# Altium footprint library semtech.PcbLib: 62 footprints (part 1 of 4)
Each footprint in its own frame and in the unit in brackets; x right, y up, seen from the top. Pads: shape width x height; smd on the part's side, far side on the other; paste and mask are expansions set on the pad; w line width, h text height; cw(c..) or ccw(c..) is an arc to the next point about the centre after c.
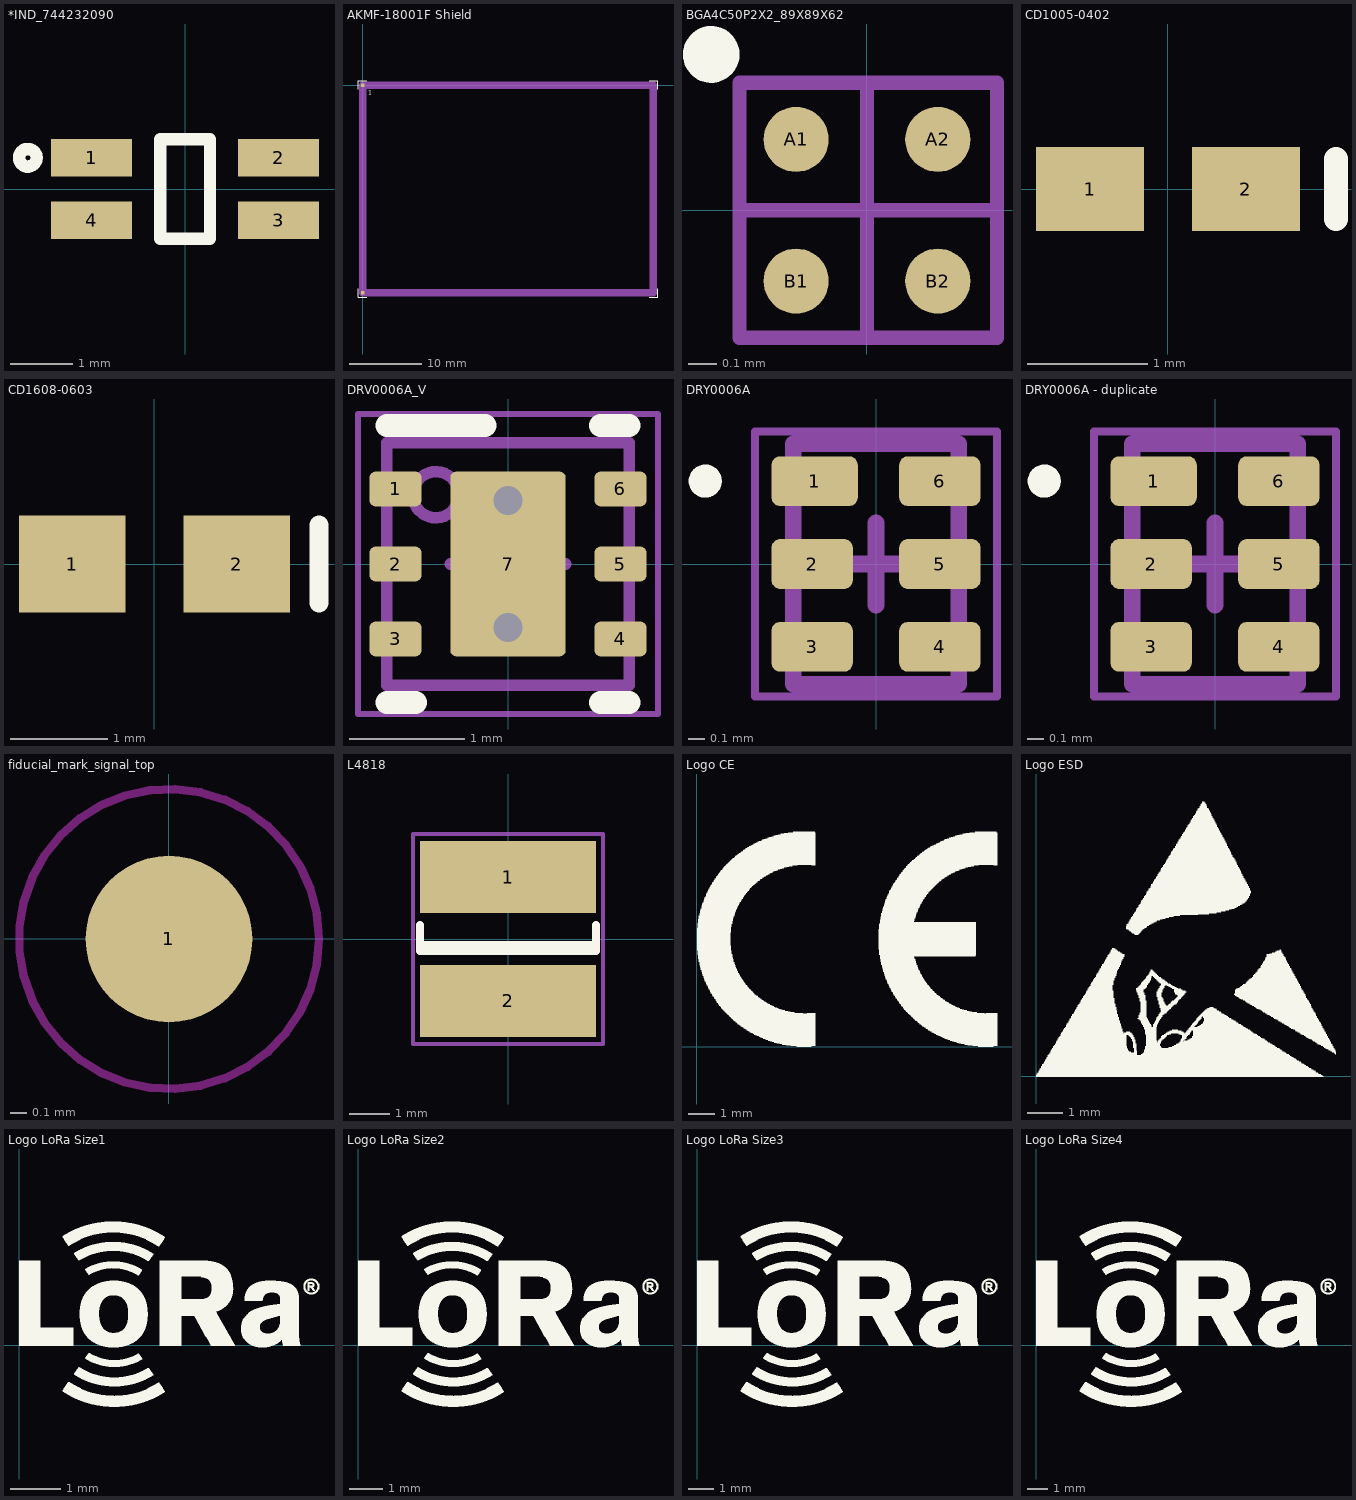
[diagram p0: the footprints below, top view; thin cyan lines are the x and y axes]

## *IND_744232090 [mm]
pads (4):
  rect 1.3x0.6 smd: 1(-1.5,0.5) 2(1.5,0.5) 3(1.5,-0.5) 4(-1.5,-0.5)
Top Overlay:
  circle w0.2: c-2.526,0.501 r0.141
  lines w0.2: -0.4,-0.8 -0.4,0.8 0.4,0.8 0.4,-0.8 -0.4,-0.8

## AKMF-18001F Shield [mm] "AKMF-18001F - RF Shield EMI Gasket - Standard Surface Mount Shields -  Leader Tech"
height 2.5
pads (2):
  rect 0.5x0.5 smd paste-1 mask+0.05: 1(0,-28.7) 1(0,0)
Top Overlay:
  lines w0.1: -0.65,-28.15 -0.65,-29.35 0.55,-29.35 ; -0.65,-0.55 -0.65,0.65 0.55,0.65 ; 39.65,-29.35 40.85,-29.35 40.85,-28.15 ; 39.65,0.65 40.85,0.65 40.85,-0.55
  text "1" at 0.75,-1.325 h0.6
Top Paste:
  region: 40.7,0.5 40.7,-1.5 39.7,-1.5 39.7,0.5
  region: 39.7,-6.25 40.7,-6.25 40.7,-2.75 39.7,-2.75
  region: 39.7,-13.75 40.7,-13.75 40.7,-8.75 39.7,-8.75
  region: 39.7,-19.75 40.45,-19.75 40.45,-14.75 39.7,-14.75
  region: 39.7,-25.25 40.7,-25.25 40.7,-20.75 39.7,-20.75
  region: 40.7,-27.5 40.7,-29.2 39.7,-29.2 39.7,-27.5
  region: 0.5,-27.2 0.5,-29.2 -0.5,-29.2 -0.5,-27.2
  region: -0.5,-25.75 0.5,-25.75 0.5,-20.75 -0.5,-20.75
  region: -0.5,-19.75 0.5,-19.75 0.5,-16.25 -0.5,-16.25
  region: -0.5,-15 0.5,-15 0.5,-8.5 -0.5,-8.5
  region: -0.5,-7.25 0.5,-7.25 0.5,-2.75 -0.5,-2.75
  region: 0.5,0.5 0.5,-3 -0.5,-3 -0.5,0.5
  region: 40.7,-29.2 37.5,-29.2 37.5,-28.2 40.7,-28.2
  region: 32.75,-28.2 32.75,-29.2 37.75,-29.2 37.75,-28.2
  region: 26.75,-28.2 26.75,-29.2 31.75,-29.2 31.75,-28.2
  region: 20.75,-28.2 20.75,-29.2 25.75,-29.2 25.75,-28.2
  region: 14.75,-28.2 14.75,-29.2 19.75,-29.2 19.75,-28.2
  region: 8.75,-28.2 8.75,-29.2 13.75,-29.2 13.75,-28.2
  region: 2.75,-28.2 2.75,-29.2 7.75,-29.2 7.75,-28.2
  region: 1.5,-29.2 -0.5,-29.2 -0.5,-28.2 1.5,-28.2
  region: 1.5,-0.5 -0.5,-0.5 -0.5,0.5 1.5,0.5
  region: 2.75,0.5 2.75,-0.5 7.75,-0.5 7.75,0.5
  region: 8.75,0.5 8.75,-0.5 13.75,-0.5 13.75,0.5
  region: 14.75,0.5 14.75,-0.5 19.75,-0.5 19.75,0.5
  region: 20.75,0.5 20.75,-0.5 25.75,-0.5 25.75,0.5
  region: 26.75,0.5 26.75,-0.5 31.75,-0.5 31.75,0.5
  region: 32.75,0.5 32.75,-0.5 37.75,-0.5 37.75,0.5
  region: 40.7,-0.5 39,-0.5 39,0.5 40.7,0.5
Top Solder:
  region: 40.7,-0.5 39,-0.5 39,0.5 40.7,0.5
  region: 32.75,0.5 32.75,-0.5 37.75,-0.5 37.75,0.5
  region: 26.75,0.5 26.75,-0.5 31.75,-0.5 31.75,0.5
  region: 20.75,0.5 20.75,-0.5 25.75,-0.5 25.75,0.5
  region: 14.75,0.5 14.75,-0.5 19.75,-0.5 19.75,0.5
  region: 8.75,0.5 8.75,-0.5 13.75,-0.5 13.75,0.5
  region: 2.75,0.5 2.75,-0.5 7.75,-0.5 7.75,0.5
  region: 1.5,-0.5 -0.5,-0.5 -0.5,0.5 1.5,0.5
  region: 1.5,-29.2 -0.5,-29.2 -0.5,-28.2 1.5,-28.2
  region: 2.75,-28.2 2.75,-29.2 7.75,-29.2 7.75,-28.2
  region: 8.75,-28.2 8.75,-29.2 13.75,-29.2 13.75,-28.2
  region: 14.75,-28.2 14.75,-29.2 19.75,-29.2 19.75,-28.2
  region: 20.75,-28.2 20.75,-29.2 25.75,-29.2 25.75,-28.2
  region: 26.75,-28.2 26.75,-29.2 31.75,-29.2 31.75,-28.2
  region: 32.75,-28.2 32.75,-29.2 37.75,-29.2 37.75,-28.2
  region: 40.7,-29.2 37.5,-29.2 37.5,-28.2 40.7,-28.2
  region: 0.5,0.5 0.5,-3 -0.5,-3 -0.5,0.5
  region: -0.5,-7.25 0.5,-7.25 0.5,-2.75 -0.5,-2.75
  region: -0.5,-15 0.5,-15 0.5,-8.5 -0.5,-8.5
  region: -0.5,-19.75 0.5,-19.75 0.5,-16.25 -0.5,-16.25
  region: -0.5,-25.75 0.5,-25.75 0.5,-20.75 -0.5,-20.75
  region: 0.5,-27.2 0.5,-29.2 -0.5,-29.2 -0.5,-27.2
  region: 40.7,-27.5 40.7,-29.2 39.7,-29.2 39.7,-27.5
  region: 39.7,-25.25 40.7,-25.25 40.7,-20.75 39.7,-20.75
  region: 39.7,-19.75 40.45,-19.75 40.45,-14.75 39.7,-14.75
  region: 39.7,-13.75 40.7,-13.75 40.7,-8.75 39.7,-8.75
  region: 39.7,-6.25 40.7,-6.25 40.7,-2.75 39.7,-2.75
  region: 40.7,0.5 40.7,-1.5 39.7,-1.5 39.7,0.5
Mechanical 15:
  lines w1: 0,-28.7 0,0 40.2,0 40.2,-28.7 0,-28.7
3D body: height 2.6, standoff 0.05, extent -0.25,-0.25 0.25,0.25

## BGA4C50P2X2_89X89X62 [mm] "BGA, 4-Leads, Body 0.89x0.89mmx0.63mm, Pitch 0.50mm"
height 0.63
pads (4):
  round 0.23 smd mask+0.05: A1(-0.25,0.25) A2(0.25,0.25) B1(-0.25,-0.25) B2(0.25,-0.25)
Top Overlay:
  circle w0.1: c-0.55,0.55 r0.05
Mechanical 15:
  lines w0.05: -0.45,0 0.45,0 ; 0,-0.45 0,0.45 ; -0.45,-0.45 -0.45,0.45 0.459,0.45 0.459,-0.45 -0.45,-0.45
3D body "User Library-DSBGA 0_5mm Pitch also YZT (S-XBGA-N4).STEP": height 0.61, standoff -0.02, extent -0.45,-0.45 0.45,0.45

## CD1005-0402 [mm] "Chip Diode; Body 1.0 x 0.5 mm (LxW typ)"
height 0.6
pads (2):
  rect 0.9x0.7 smd mask+0.05: 1(-0.65,0) 2(0.65,0)
Top Overlay:
  lines w0.2: 1.4,-0.25 1.4,0.25

## CD1608-0603 [mm] "Chip Diode; Body 1.6 x 0.8 mm (LxW typ)"
height 0.85
pads (2):
  rect 1.1x1 smd mask+0.05: 1(-0.85,0) 2(0.85,0)
Top Overlay:
  lines w0.2: 1.7,-0.4 1.7,0.4

## DRV0006A_V [mm] "SON, 6-Leads, Body 2x2mm, Pitch 0.65mm, Thermal Pad 1.6x1mm, TI Recommended"
height 0.8
pads (7):
  rrect33% 0.45x0.3 smd mask+0.05: 1(-0.975,0.65) 2(-0.975,0) 3(-0.975,-0.65) 4(0.975,-0.65) 5(0.975,0) 6(0.975,0.65)
  rrect10% 1x1.6 smd paste-0.05 mask+0.05: 7(0,0)
via 0,0.55 diameter 0.5 hole 0.25
via 0,-0.55 diameter 0.5 hole 0.25
Top Overlay:
  lines w0.2: -1.05,-1.2 -0.8,-1.2 ; -1.05,1.2 -0.2,1.2 ; 0.8,-1.2 1.05,-1.2 ; 0.8,1.2 1.05,1.2
Mechanical 13:
  circle w0.1: c-0.625,0.6 r0.2
  lines w0.1: -1.05,-1.05 -1.05,1.05 1.05,1.05 1.05,-1.05 -1.05,-1.05
Mechanical 15:
  lines w0.05: -1.3,-1.3 -1.3,1.3 1.3,1.3 1.3,-1.3 -1.3,-1.3
  lines w0.1: -0.5,0 0.5,0 ; 0,-0.5 0,0.5
3D body: height 0.81, standoff 0.5, extent -0.824,0.401 -0.426,0.799
3D body: height 0.8, standoff 0, extent -1.05,-1.05 1.05,1.05

## DRY0006A [mm] "SON, 6-Leads, Body 1.45x1mm, Pitch 0.5mm"
height 0.6
pads (6):
  rrect33% 0.52x0.3 smd: 1(-0.37,0.5)
  rrect33% 0.49x0.3 smd: 2(-0.385,0) 3(-0.385,-0.5) 4(0.385,-0.5) 5(0.385,0) 6(0.385,0.5)
Top Overlay:
  circle w0.1: c-1.03,0.5 r0.05
Mechanical 1:
  text ".Designator" at -0.385,0 h0.2
Mechanical 13:
  lines w0.1: -0.5,-0.725 -0.5,0.725 0.5,0.725 0.5,-0.725 -0.5,-0.725
Mechanical 15:
  lines w0.05: -0.73,-0.8 -0.73,0.8 0.73,0.8 0.73,-0.8 -0.73,-0.8
  lines w0.1: -0.25,0 0.25,0 ; 0,-0.25 0,0.25
3D body: height 0.6, standoff 0, extent -0.5,-0.725 0.5,0.725

## DRY0006A - duplicate [mm] "SON, 6-Leads, Body 1.45x1mm, Pitch 0.5mm"
height 0.6
pads (6):
  rrect33% 0.52x0.3 smd: 1(-0.37,0.5)
  rrect33% 0.49x0.3 smd: 2(-0.385,0) 3(-0.385,-0.5) 4(0.385,-0.5) 5(0.385,0) 6(0.385,0.5)
Top Overlay:
  circle w0.1: c-1.03,0.5 r0.05
Mechanical 1:
  text ".Designator" at -0.385,0 h0.2
Mechanical 13:
  lines w0.1: -0.5,-0.725 -0.5,0.725 0.5,0.725 0.5,-0.725 -0.5,-0.725
Mechanical 15:
  lines w0.05: -0.73,-0.8 -0.73,0.8 0.73,0.8 0.73,-0.8 -0.73,-0.8
  lines w0.1: -0.25,0 0.25,0 ; 0,-0.25 0,0.25
3D body: height 0.6, standoff 0, extent -0.5,-0.725 0.5,0.725

## fiducial_mark_signal_top [mm] "Fiducial mark for automatic assembly"
height 1
pads (1):
  round 1 smd paste-2 mask+0.5: 1(0,0)
Top Layer keep-out:
  circle w0.05: c0,0 r0.9

## L4818 [mm] "L4818 Size for LPS4018 - 3.9x3.9mm"
height 2
pads (2):
  rect 4.4x1.8 smd mask+0.05: 1(0,1.55) 2(0,-1.55)
Top Overlay:
  lines w0.2: -2.2,-0.15 2.2,-0.15 ; -2.2,0.35 -2.2,-0.3 2.2,-0.3 2.2,0.35
Mechanical 15:
  lines w0.1: -2.375,-2.625 2.375,-2.625 2.375,2.625 -2.375,2.625 -2.375,-2.625
3D body: height 2, standoff 0.3, extent -2,-2 2,2

## Logo CE [mm] "Logo CE"
height 0.1
Top Overlay:
  drawing of 654 lines, arcs and shapes, not listed

## Logo ESD [mm] "Logo ESD"
height 0.1
Top Overlay:
  drawing of 682 lines, arcs and shapes, not listed

## Logo LoRa Size1 [mm] "Logo LoRa Size1 - Top Overlay - 6x4mm - Registered"
Top Overlay:
  drawing of 1298 lines, arcs and shapes, not listed

## Logo LoRa Size2 [mm] "Logo LoRa Size2 - Top Overlay - 9x5.5mm - Registered"
Top Overlay:
  drawing of 1298 lines, arcs and shapes, not listed
3D body: height 0.8, standoff 0.1, extent 1.825,-0.05 3.875,1.95

## Logo LoRa Size3 [mm] "Logo LoRa Size3 - Top Overlay - 14.5x8mm - Registered"
Top Overlay:
  drawing of 1298 lines, arcs and shapes, not listed
3D body: height 0.8, standoff 0.1, extent 2.3,-0.1 5.25,2.65

## Logo LoRa Size4 [mm] "Logo LoRa Size4 - Top Overlay - 18x9.5mm - Registered"
Top Overlay:
  drawing of 1298 lines, arcs and shapes, not listed